# Altium schematic symbol library TitleBlock.SchLib: 1 symbol
Pins are listed as number, name and electrical type; pins without a type are passive.

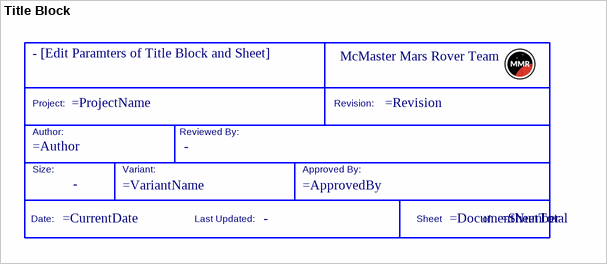
[diagram p0: symbol Title Block]

## Title Block
designator *  TItleName: - [Edit Paramters of Title Block and Sheet]  (hidden comment: *)  (graphical)
MMRT Title Block; LastUpdate: -; ReviewedBy: -; Size: -
text: McMaster Mars Rover Team; Project:; Revision:; Author:; Reviewed By:; Size:; Variant:; Approved By:; Date:; Last Updated:; Sheet; of